# Altium footprint library WE-RCIT.PcbLib: 12 footprints
Each footprint in its own frame and in the unit in brackets; x right, y up, seen from the top. Pads: shape width x height; smd on the part's side, far side on the other; paste and mask are expansions set on the pad; w line width, h text height; cw(c..) or ccw(c..) is an arc to the next point about the centre after c.
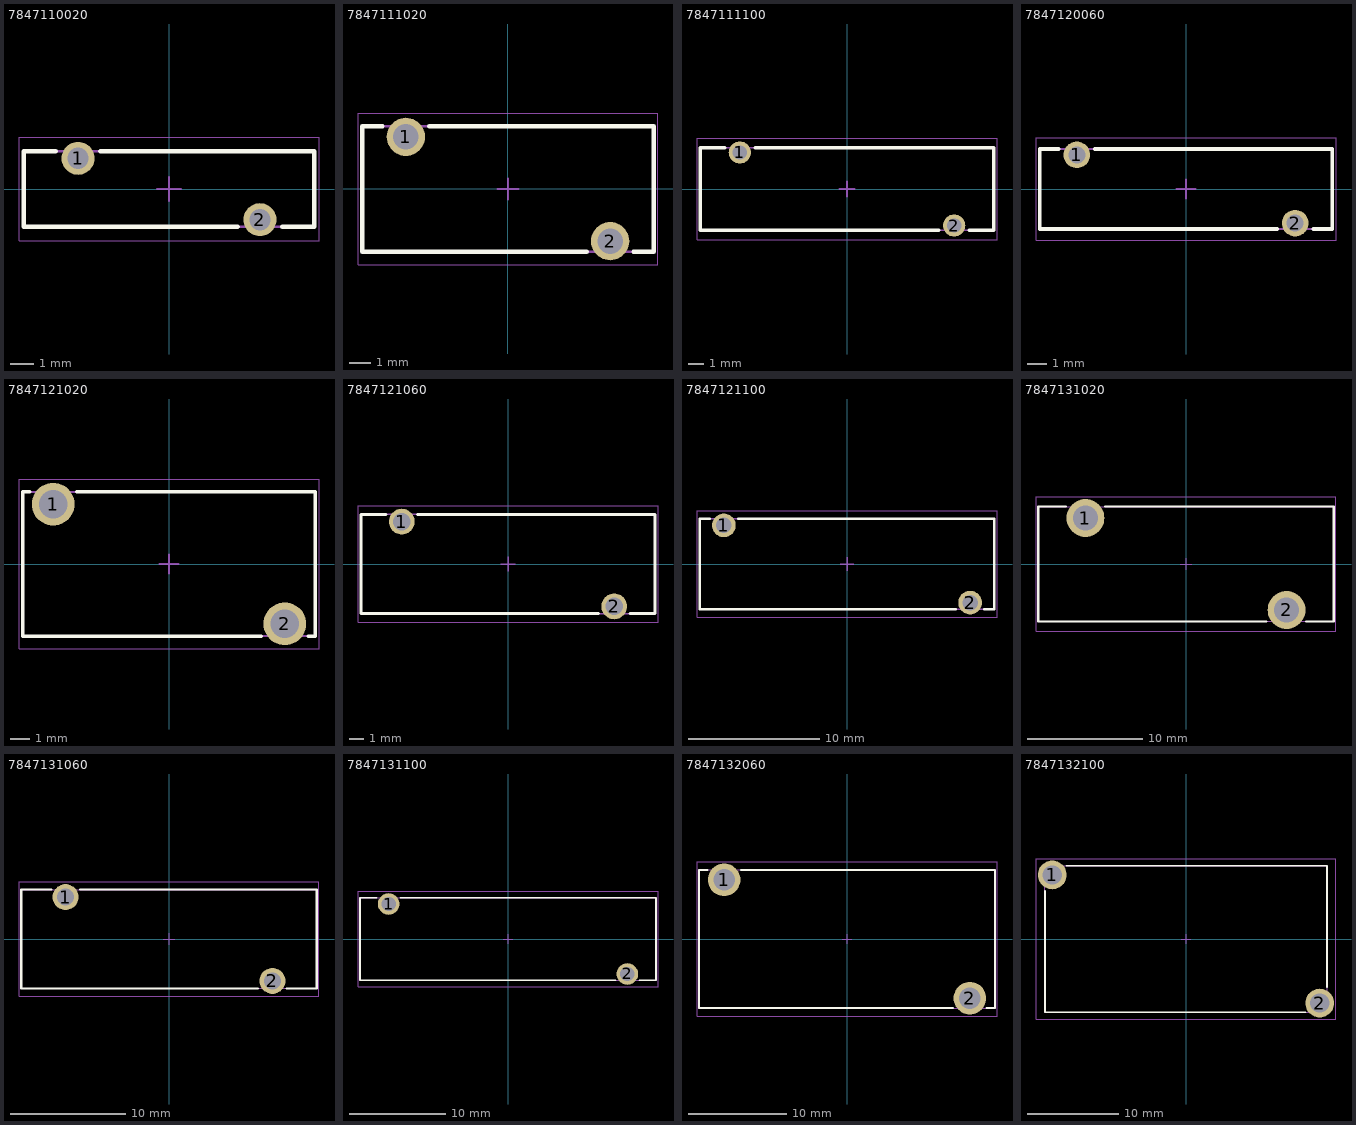
[diagram p0: the footprints below, top view; thin cyan lines are the x and y axes]

## 7847110020 [mm] "Rod Core Inductor THT, body 12.3x3.2mm"
height 3.2
pads (2):
  round 1.4 hole 0.9: 1(-3.85,1.3) 2(3.85,-1.3)
Top Overlay:
  lines w0.2: -4.8,1.6 -6.15,1.6 -6.15,-1.6 2.9,-1.6 ; -2.9,1.6 6.15,1.6 6.15,-1.6 4.8,-1.6
Top Assembly:
  lines w0.1: -6.15,-1.6 6.15,-1.6 6.15,1.6 -6.15,1.6 -6.15,-1.6
Top Designator:
  text ".Designator" at -3.647,-0.357 h1
Top 3D Body:
  lines w0.1: -6.15,-1.6 -6.15,1.6 6.15,1.6 6.15,-1.6 -6.15,-1.6
Top Courtyard:
  lines w0.05: -6.35,-2.2 6.35,-2.2 6.35,2.2 -6.35,2.2 -6.35,-2.2
Top Component Center:
  lines w0.1: -0.5,0 0.5,0 ; 0,-0.5 0,0.5
3D body "7847110020.stp": height 3.25, standoff -2.95, extent -6.15,-1.598 6.15,1.598

## 7847111020 [mm] "Rod Core Inductor THT, body 13.7x5.9mm"
height 5.9
pads (2):
  round 1.8 hole 1.2: 1(-4.8,2.45) 2(4.8,-2.45)
Top Overlay:
  lines w0.2: -5.9,2.95 -6.85,2.95 -6.85,-2.95 3.7,-2.95 ; -3.7,2.95 6.85,2.95 6.85,-2.95 5.9,-2.95
Top Assembly:
  lines w0.1: -6.85,-2.95 -6.85,2.95 6.85,2.95 6.85,-2.95 -6.85,-2.95
Top Designator:
  text ".Designator" at -3.647,-0.357 h1
Top 3D Body:
  lines w0.1: -6.85,-2.95 6.85,-2.95 6.85,2.95 -6.85,2.95 -6.85,-2.95
Top Courtyard:
  lines w0.05: -7.05,-3.55 -7.05,3.55 7.05,3.55 7.05,-3.55 -7.05,-3.55
Top Component Center:
  lines w0.1: -0.5,0 0.5,0 ; 0,-0.5 0,0.5
3D body "7847111020 (rev1).stp": height 5.95, standoff -2.95, extent -7,-2.95 7,2.95

## 7847111100 [mm] "Rod Core Inductor THT, body 18.5x5.2mm"
height 5.2
pads (2):
  round 1.4 hole 0.9: 1(-6.75,2.3) 2(6.75,-2.3)
Top Overlay:
  lines w0.2: -7.7,2.6 -9.25,2.6 -9.25,-2.6 5.8,-2.6 ; -5.8,2.6 9.25,2.6 9.25,-2.6 7.7,-2.6
Top Assembly:
  lines w0.1: -9.25,-2.6 9.25,-2.6 9.25,2.6 -9.25,2.6 -9.25,-2.6
Top Designator:
  text ".Designator" at -3.647,-0.357 h1
Top 3D Body:
  lines w0.1: -9.25,-2.6 -9.25,2.6 9.25,2.6 9.25,-2.6 -9.25,-2.6
Top Courtyard:
  lines w0.05: -9.45,-3.2 9.45,-3.2 9.45,3.2 -9.45,3.2 -9.45,-3.2
Top Component Center:
  lines w0.1: -0.5,0 0.5,0 ; 0,-0.5 0,0.5
3D body "7847111100.stp": height 5.25, standoff -2.95, extent -9.25,-2.6 9.25,2.6

## 7847120060 [mm] "Rod Core Inductor THT, body 15.4x4.2mm"
height 4.2
pads (2):
  round 1.4 hole 0.9: 1(-5.75,1.8) 2(5.75,-1.8)
Top Overlay:
  lines w0.2: -6.7,2.1 -7.7,2.1 -7.7,-2.1 4.8,-2.1 ; -4.8,2.1 7.7,2.1 7.7,-2.1 6.7,-2.1
Top Assembly:
  lines w0.1: -7.7,-2.1 -7.7,2.1 7.7,2.1 7.7,-2.1 -7.7,-2.1
Top Designator:
  text ".Designator" at -3.647,-0.357 h1
Top 3D Body:
  lines w0.1: -7.7,-2.1 7.7,-2.1 7.7,2.1 -7.7,2.1 -7.7,-2.1
Top Courtyard:
  lines w0.05: -7.9,-2.7 -7.9,2.7 7.9,2.7 7.9,-2.7 -7.9,-2.7
Top Component Center:
  lines w0.1: -0.5,0 0.5,0 ; 0,-0.5 0,0.5
3D body "7847120060.stp": height 4.25, standoff -2.95, extent -7.7,-2.1 7.7,2.1

## 7847121020 [mm] "Rod Core Inductor THT, body 15.4x7.6mm"
height 7.6
pads (2):
  round 2.25 hole 1.5: 1(-6.1,3.15) 2(6.1,-3.15)
Top Overlay:
  lines w0.2: -7.35,3.8 -7.7,3.8 -7.7,-3.8 4.85,-3.8 ; -4.85,3.8 7.7,3.8 7.7,-3.8 7.35,-3.8
Top Assembly:
  lines w0.1: -7.7,-3.8 7.7,-3.8 7.7,3.8 -7.7,3.8 -7.7,-3.8
Top Designator:
  text ".Designator" at -3.647,-0.357 h1
Top 3D Body:
  lines w0.1: -7.7,-3.8 -7.7,3.8 7.7,3.8 7.7,-3.8 -7.7,-3.8
Top Courtyard:
  lines w0.05: -7.9,-4.475 7.9,-4.475 7.9,4.475 -7.9,4.475 -7.9,-4.475
Top Component Center:
  lines w0.1: -0.5,0 0.5,0 ; 0,-0.5 0,0.5
3D body "7847121020.stp": height 7.65, standoff -2.95, extent -7.7,-3.8 7.7,3.8

## 7847121060 [mm] "Rod Core Inductor THT, body 20.5x6.9mm"
height 6.9
pads (2):
  round 1.8 hole 1.2: 1(-7.4,2.95) 2(7.4,-2.95)
Top Overlay:
  lines w0.2: -8.5,3.45 -10.25,3.45 -10.25,-3.45 6.3,-3.45 ; -6.3,3.45 10.25,3.45 10.25,-3.45 8.5,-3.45
Top Assembly:
  lines w0.1: -10.25,-3.45 10.25,-3.45 10.25,3.45 -10.25,3.45 -10.25,-3.45
Top Designator:
  text ".Designator" at -3.647,-0.357 h1
Top 3D Body:
  lines w0.1: -10.25,-3.45 -10.25,3.45 10.25,3.45 10.25,-3.45 -10.25,-3.45
Top Courtyard:
  lines w0.05: -10.45,-4.05 10.45,-4.05 10.45,4.05 -10.45,4.05 -10.45,-4.05
Top Component Center:
  lines w0.1: -0.5,0 0.5,0 ; 0,-0.5 0,0.5
3D body "7847121060.stp": height 6.94, standoff -2.95, extent -10.25,-3.45 10.25,3.45

## 7847121100 [mm] "Rod Core Inductor THT, body 22.5x6.9mm"
height 6.9
pads (2):
  round 1.8 hole 1.2: 1(-9.4,2.95) 2(9.4,-2.95)
Top Overlay:
  lines w0.2: -10.5,3.45 -11.25,3.45 -11.25,-3.45 8.3,-3.45 ; -8.3,3.45 11.25,3.45 11.25,-3.45 10.5,-3.45
Top Assembly:
  lines w0.1: -11.25,-3.45 11.25,-3.45 11.25,3.45 -11.25,3.45 -11.25,-3.45
Top Designator:
  text ".Designator" at -3.647,-0.357 h1
Top 3D Body:
  lines w0.1: -11.25,-3.45 -11.25,3.45 11.25,3.45 11.25,-3.45 -11.25,-3.45
Top Courtyard:
  lines w0.05: -11.45,-4.05 11.45,-4.05 11.45,4.05 -11.45,4.05 -11.45,-4.05
Top Component Center:
  lines w0.1: -0.5,0 0.5,0 ; 0,-0.5 0,0.5
3D body "7847121100.stp": height 6.95, standoff -2.95, extent -11.25,-3.45 11.25,3.45

## 7847131020 [mm] "Rod Core Inductor THT, body 25.7x10mm"
height 10
pads (2):
  round 3.3 hole 2.2: 1(-8.75,4) 2(8.75,-4)
Top Overlay:
  lines w0.2: -10.45,5 -12.85,5 -12.85,-5 7,-5 ; -7.05,5 12.85,5 12.85,-5 10.45,-5
Top Assembly:
  lines w0.1: -12.85,-5 -12.85,5 12.85,5 12.85,-5 -12.85,-5
Top Designator:
  text ".Designator" at -3.647,-0.357 h1
Top 3D Body:
  lines w0.1: -12.85,-5 12.85,-5 12.85,5 -12.85,5 -12.85,-5
Top Courtyard:
  lines w0.05: -13.05,-5.85 -13.05,5.85 13.05,5.85 13.05,-5.85 -13.05,-5.85
Top Component Center:
  lines w0.1: -0.5,0 0.5,0 ; 0,-0.5 0,0.5
3D body "7847131020 (rev1).stp": height 10.05, standoff -2.95, extent -12.85,-5 12.85,5

## 7847131060 [mm] "Rod Core Inductor THT, body 25.7x8.6mm"
height 8.6
pads (2):
  round 2.25 hole 1.5: 1(-9,3.65) 2(9,-3.65)
Top Overlay:
  lines w0.2: -10.25,4.3 -12.85,4.3 -12.85,-4.3 7.75,-4.3 ; -7.75,4.3 12.85,4.3 12.85,-4.3 10.25,-4.3
Top Assembly:
  lines w0.1: -12.85,-4.3 12.85,-4.3 12.85,4.3 -12.85,4.3 -12.85,-4.3
Top Designator:
  text ".Designator" at -3.647,-0.357 h1
Top 3D Body:
  lines w0.1: -12.85,-4.3 -12.85,4.3 12.85,4.3 12.85,-4.3 -12.85,-4.3
Top Courtyard:
  lines w0.05: -13.05,-4.975 13.05,-4.975 13.05,4.975 -13.05,4.975 -13.05,-4.975
Top Component Center:
  lines w0.1: -0.5,0 0.5,0 ; 0,-0.5 0,0.5
3D body "7847131060.stp": height 8.65, standoff -2.95, extent -12.85,-4.3 12.85,4.3

## 7847131100 [mm] "Rod Core Inductor THT, body 30.9x8.6mm"
height 8.6
pads (2):
  round 2.25 hole 1.5: 1(-12.45,3.65) 2(12.45,-3.65)
Top Overlay:
  lines w0.2: -13.7,4.3 -15.45,4.3 -15.45,-4.3 11.2,-4.3 ; -11.2,4.3 15.45,4.3 15.45,-4.3 13.7,-4.3
Top Assembly:
  lines w0.1: -15.45,-4.3 -15.45,4.3 15.45,4.3 15.45,-4.3 -15.45,-4.3
Top Designator:
  text ".Designator" at -3.647,-0.357 h1
Top 3D Body:
  lines w0.1: -15.45,-4.3 15.45,-4.3 15.45,4.3 -15.45,4.3 -15.45,-4.3
Top Courtyard:
  lines w0.05: -15.65,-4.975 -15.65,4.975 15.65,4.975 15.65,-4.975 -15.65,-4.975
Top Component Center:
  lines w0.1: -0.5,0 0.5,0 ; 0,-0.5 0,0.5
3D body "7847131100.stp": height 8.8, standoff -2.8, extent -15.45,-4.3 15.45,4.3

## 7847132060 [mm] "Rod Core Inductor THT, body 30x14mm"
height 14
pads (2):
  round 3.3 hole 2.2: 1(-12.45,6) 2(12.45,-6)
Top Overlay:
  lines w0.2: -14.15,7 -15,7 -15,-7 10.75,-7 ; -10.75,7 15,7 15,-7 14.15,-7
Top Assembly:
  lines w0.1: -15,-7 15,-7 15,7 -15,7 -15,-7
Top Designator:
  text ".Designator" at -3.647,-0.357 h1
Top 3D Body:
  lines w0.1: -15,-7 -15,7 15,7 15,-7 -15,-7
Top Courtyard:
  lines w0.05: -15.2,-7.85 15.2,-7.85 15.2,7.85 -15.2,7.85 -15.2,-7.85
Top Component Center:
  lines w0.1: -0.5,0 0.5,0 ; 0,-0.5 0,0.5
3D body "7847132060.stp": height 14.05, standoff -2.95, extent -15,-7 15,7

## 7847132100 [mm] "Rod Core Inductor THT, body 30.8x16mm"
height 16
pads (2):
  round 3.15 hole 2.1: 1(-14.6,7) 2(14.6,-7)
Top Overlay:
  lines w0.2: -15.4,5.25 -15.4,-8 13.05,-8 ; -13.05,8 15.4,8 15.4,-5.25
Top Assembly:
  lines w0.1: -15.4,-8 15.4,-8 15.4,8 -15.4,8 -15.4,-8
Top Designator:
  text ".Designator" at -3.647,-0.357 h1
Top 3D Body:
  lines w0.1: -15.4,-8 -15.4,8 15.4,8 15.4,-8 -15.4,-8
Top Courtyard:
  lines w0.05: -16.375,-8.775 16.375,-8.775 16.375,8.775 -16.375,8.775 -16.375,-8.775
Top Component Center:
  lines w0.1: -0.5,0 0.5,0 ; 0,-0.5 0,0.5
3D body "7847132100.stp": height 16.05, standoff -2.95, extent -15.448,-8 15.448,8